# EAGLE library part OLED (library pmon_3v8)
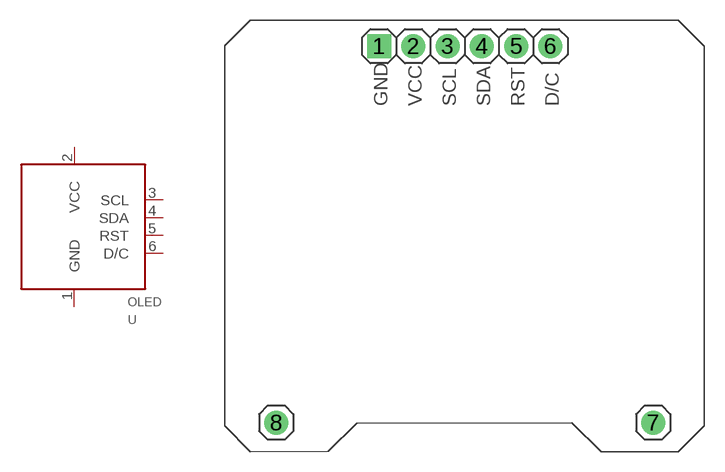
[diagram p4: symbol with the pads of OLED; footprint OLED]

Designator prefix -

## OLED  [OLED]
1  GND  pwr
2  VCC  pwr
3  SCL  in
4  SDA  in
5  RST  in
6  D/C  in

## Footprint OLED (pad centres in mm)
PIN HEADER
drill 1.016 pad 1.778 square: 1 0,0
drill 1.016 pad 1.778: 2 2.54,0; 3 5.08,0; 4 7.62,0; 5 10.16,0; 6 12.7,0; 7 20.32,-27.94; 8 -7.62,-27.94